# EAGLE library part AD8184 (library wg_library)
700 MHz, 5 mA 4-to-1 Video Multiplexer Source: https://www.analog.com/media/en/technical-documentation/data-sheets/AD8184.pdf
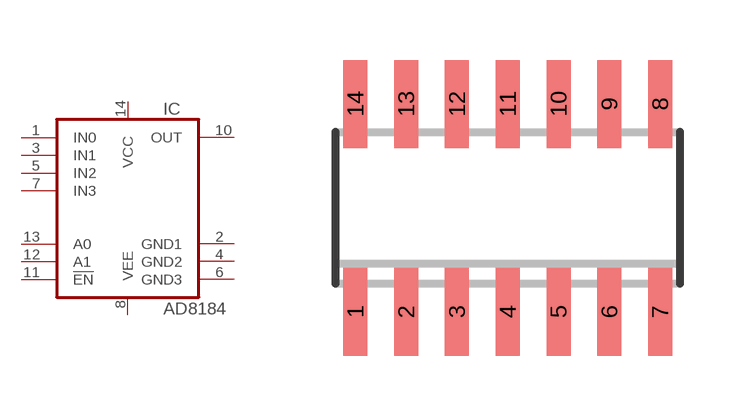
[diagram p3: symbol with the pads of SO14; footprint SO14]

Designator prefix IC

## AD8184R14  [SO14]
1  IN0  in
2  GND1  pwr
3  IN1  in
4  GND2  pwr
5  IN2  in
6  GND3  pwr
7  IN3  in
8  VEE  pwr
10  OUT  out
11  !EN  in
12  A1  in
13  A0  in
14  VCC  pwr

## Footprint SO14 (pad centres in mm)
smd 0.6 x 2.2: 1 -3.81,-2.6; 2 -2.54,-2.6; 3 -1.27,-2.6; 4 0,-2.6; 5 1.27,-2.6; 6 2.54,-2.6; 7 3.81,-2.6; 8 3.81,2.6; 9 2.54,2.6; 10 1.27,2.6; 11 0,2.6; 12 -1.27,2.6; 13 -2.54,2.6; 14 -3.81,2.6